# EAGLE library part 6871XX14522_68713314522 (library 68611414422)
WR-FPC 0.50 mm SMT ZIF Horizontal Bottom Contact KIND PROPERTIES Pitch 0.5 mm MATERIAL PROPERTIES Insulator Material LCP Contact Material Phosphor Bronze Contact Plating 100 (µ") Tin over 50 (µ") Nickel Contact Type Stamped Solder Tabs Brass <https://www.we-online.com/catalog/media/o32870v209%20Family_WR-FPC_6871xx14522.jpg> Details see: https://www.we-online.com/catalog/en/FPC_0_5_SMT_ZIF_HORIZONTAL_BOTTOM_CONTACT_6871XX14522/ Updated by Ella Wu 2020-08-26 2020(C) Wurth Elektronik
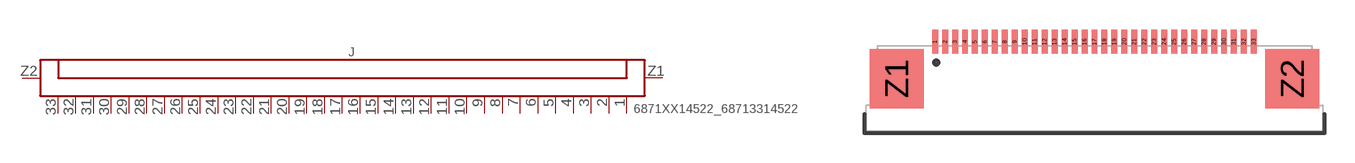
[diagram p198: symbol with the pads of 68713314522; footprint 68713314522]

Designator prefix J

## 6871XX14522_68713314522 (CONTACT-RESISTANCE: 20mOhm; DATASHEET-URL: https://www.we-online.com/catalog/datasheet/68713314522.pdf; IR: 0.5A; L: 22.9mm; PACKAGING: Tape and Reel; PART-NUMBER: 68713314522; PINS: 33; PITCH: 0.5mm; TYPE: Horizontal; VALUE: 68713314522; WORKING-VOLTAGE: 50V(AC))  [68713314522]
1  1  pas
2  2  pas
3  3  pas
4  4  pas
5  5  pas
6  6  pas
7  7  pas
8  8  pas
9  9  pas
10  10  pas
11  11  pas
12  12  pas
13  13  pas
14  14  pas
15  15  pas
16  16  pas
17  17  pas
18  18  pas
19  19  pas
20  20  pas
21  21  pas
22  22  pas
23  23  pas
24  24  pas
25  25  pas
26  26  pas
27  27  pas
28  28  pas
29  29  pas
30  30  pas
31  31  pas
32  32  pas
33  33  pas
Z1  Z1  pas
Z2  Z2  pas

## Footprint 68713314522 (pad centres in mm)
WR-FPC 0.50 mm SMT ZIF Horizontal Bottom Contact , 33 Pins
smd 0.3 x 1.2: 1 -8,2.35; 2 -7.5,2.35; 3 -7,2.35; 4 -6.5,2.35; 5 -6,2.35; 6 -5.5,2.35; 7 -5,2.35; 8 -4.5,2.35; 9 -4,2.35; 10 -3.5,2.35; 11 -3,2.35; 12 -2.5,2.35; 13 -2,2.35; 14 -1.5,2.35; 15 -1,2.35; 16 -0.5,2.35; 17 0,2.35; 18 0.5,2.35; 19 1,2.35; 20 1.5,2.35; 21 2,2.35; 22 2.5,2.35; 23 3,2.35; 24 3.5,2.35; 25 4,2.35; 26 4.5,2.35; 27 5,2.35; 28 5.5,2.35; 29 6,2.35; 30 6.5,2.35; 31 7,2.35; 32 7.5,2.35; 33 8,2.35
smd 2.7 x 3: Z1 -9.93,0.49; Z2 9.93,0.49